# Altium schematic symbol library LCD2.8_TFT_ili932x.SchLib: 1 symbol
Pins are listed as number, name and electrical type; pins without a type are passive.

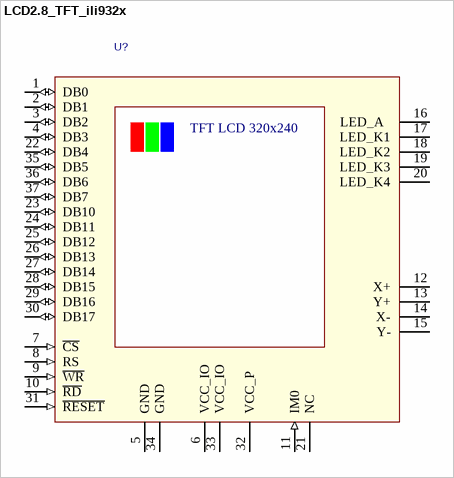
[diagram p0: symbol LCD2.8_TFT_ili932x]

## LCD2.8_TFT_ili932x
designator U?, comment ILI932x  (value not drawn)
LCD2.8_TFT_ili932x; Value: *
footprint LCD2.8_TFT_ili932x
pins: 1 DB0 (io), 2 DB1 (io), 3 DB2 (io), 4 DB3 (io), 5 GND (power), 6 VCC_IO (power), 7 ~{CS} (in), 8 RS (in), 9 ~{WR} (in), 10 ~{RD} (in), 11 IM0 (in), 12 X+, 13 Y+, 14 X-, 15 Y-, 16 LED_A  , 17 LED_K1, 18 LED_K2, 19 LED_K3, 20 LED_K4, 21 NC, 22 DB4 (io), 23 DB10 (io), 24 DB11 (io), 25 DB12 (io), 26 DB13 (io), 27 DB14 (io), 28 DB15 (io), 29 DB16 (io), 30 DB17 (io), 31 ~{RESET} (in), 32 VCC_P (power), 33 VCC_IO (power), 34 GND (power), 35 DB5 (io), 36 DB6 (io), 37 DB7 (io)
text: TFT LCD 320x240